# EAGLE library part C+K_AYZ0202AGRLC (library Ava)
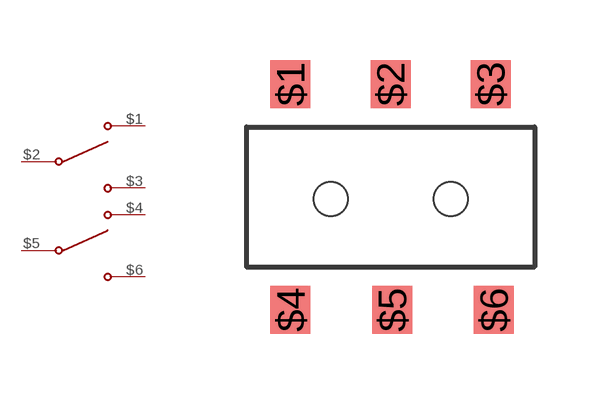
[diagram p39: symbol with the pads of C+K_AYZ0202AGRLC; footprint C+K_AYZ0202AGRLC]

Designator prefix -

## C+K_AYZ0202AGRLC  [C+K_AYZ0202AGRLC]
$1  1
$2  2
$3  3
$4  4
$5  5
$6  6

## Footprint C+K_AYZ0202AGRLC (pad centres in mm)
AYZ0202AGRLC
smd 1 x 1.2: $1 -2.5,2.825; $2 0,2.825; $3 2.5,2.825; $4 -2.5,-2.825; $5 0.04,-2.825; $6 2.58,-2.825
hole 0.85 at -1.5,-0.06
hole 0.85 at 1.5,-0.06